# EAGLE library part 62402221622 (library WR-WTB)
WR-WTB 2.00 mm Male Dual Row Vertical Shrouded Header w. positive locking Material Properties Insulator Material PBT Insulator Flammability Rating UL94 V-0 Color White Contact Material Copper Alloy Contact Plating Tin Contact Type Stamped Certification UL Approval E323964 General Information Operating Temperature -25 °C up to +85 °C Compliance RoHS IR 3 A Working Voltage 250 V (AC) Withstanding Voltage 1000 V (AC) Contact Resistance 20 mΩ RISO 1000 MΩ Pitch 2 mm Gender Male Type Vertical Packaging Properties Packaging Tube <https://www.we-online.com/components/media/o33358v209%20Family_WR-WTB_6240xx21622.jpg> Details see: www.we-online.com/en/components/products/WTB_2_00_MALE_DUAL_ROW_VERTICAL_SHROUDED_HEADER_W_POSITIVE_LOCKING_6240XX21622 <www.we-online.com/catalog/WTB_2_00_MALE_DUAL_ROW_VERTICAL_SHROUDED_HEADER_W_POSITIVE_LOCKING_6240XX21622/?utm_source=eagle_model&utm_medium=description_link&utm_campaign=eisos_eagle> Updated by Ella 2025-03-06 2025 (C) Würth Elektronik
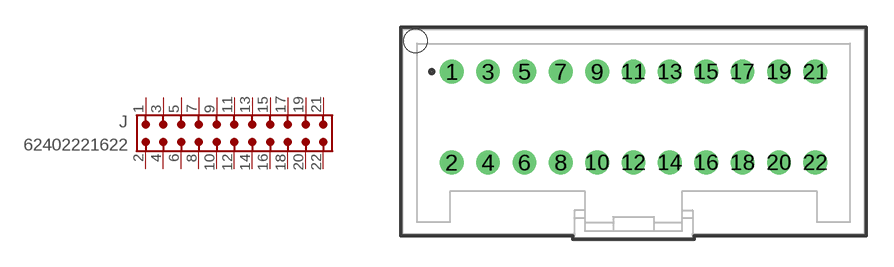
[diagram p94: symbol with the pads of 62402221622; footprint 62402221622]

Designator prefix J

## 62402221622 (CONTACT-RESISTANCE: 20mOhm; DATASHEET-URL: https://www.we-online.com/redexpert/spec/62402221622?ae; GENDER: Male; IR: 3A; L: 25.4mm; MOUNT: THT; PACKAGING: Tube; PART-NUMBER: 62402221622; PCB-CABLE-PANEL: PCB; PINS: 22; PITCH: 2mm; TYPE: Vertical; VALUE: 62402221622; WORKING-VOLTAGE: 250V(AC))  [62402221622]
1  1  pas
2  2  pas
3  3  pas
4  4  pas
5  5  pas
6  6  pas
7  7  pas
8  8  pas
9  9  pas
10  10  pas
11  11  pas
12  12  pas
13  13  pas
14  14  pas
15  15  pas
16  16  pas
17  17  pas
18  18  pas
19  19  pas
20  20  pas
21  21  pas
22  22  pas

## Footprint 62402221622 (pad centres in mm)
WR-WTB 2.00 mm Male Dual Row Vertical Shrouded Header w. positive locking,22 Pins
drill 0.8: 1 -10,3.3; 2 -10,-1.7; 3 -8,3.3; 4 -8,-1.7; 5 -6,3.3; 6 -6,-1.7; 7 -4,3.3; 8 -4,-1.7; 9 -2,3.3; 10 -2,-1.7; 11 0,3.3; 12 0,-1.7; 13 2,3.3; 14 2,-1.7; 15 4,3.3; 16 4,-1.7; 17 6,3.3; 18 6,-1.7; 19 8,3.3; 20 8,-1.7; 21 10,3.3; 22 10,-1.7
hole 1.3 at -12,5